# Altium footprint library MODULE_RF_WIRELESS.PcbLib: 20 footprints (part 1 of 2)
Each footprint in its own frame and in the unit in brackets; x right, y up, seen from the top. Pads: shape width x height; smd on the part's side, far side on the other; paste and mask are expansions set on the pad; w line width, h text height; cw(c..) or ccw(c..) is an arc to the next point about the centre after c.
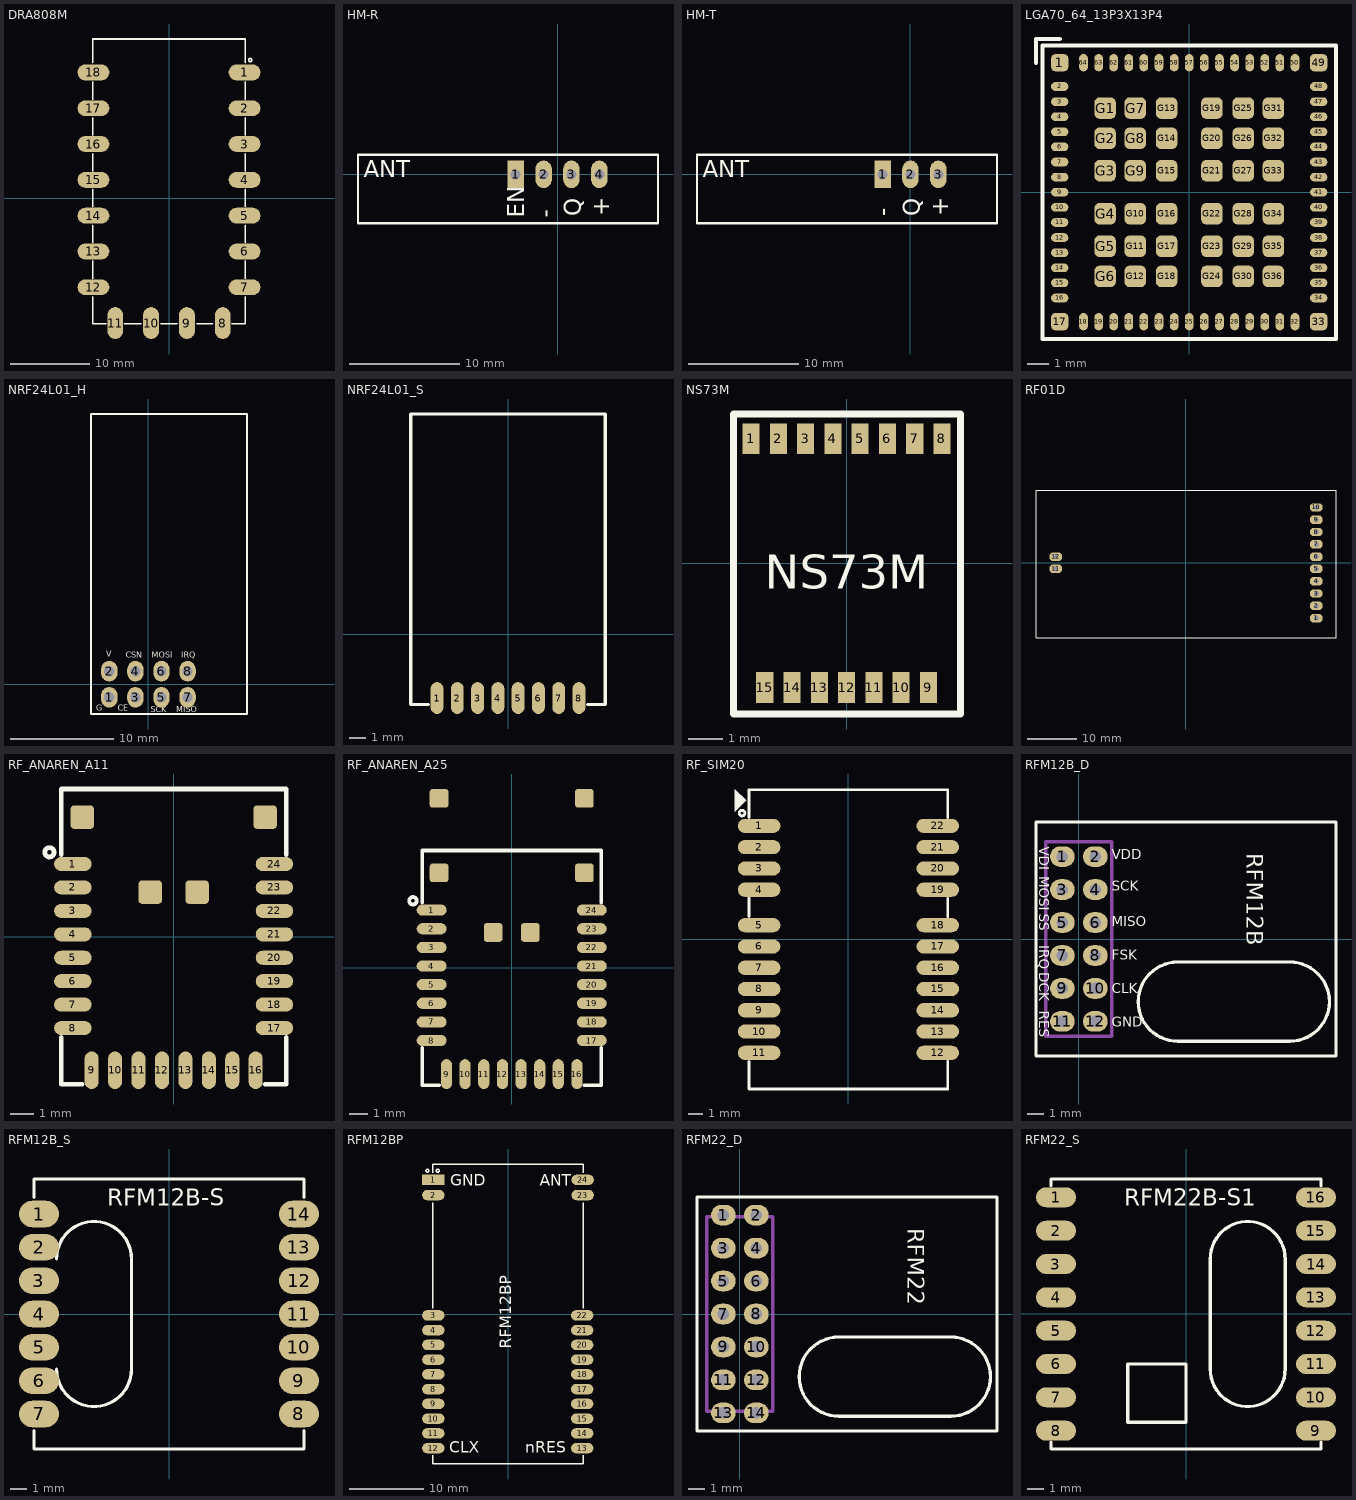
[diagram p0: the footprints below, top view; thin cyan lines are the x and y axes]

## DRA808M [mm] "DRA808M wireless module"
pads (18):
  oval 4x2 smd: 1(9.5,15.8) 2(9.5,11.3) 3(9.5,6.8) 4(9.5,2.3) 5(9.5,-2.2) 6(9.5,-6.7) 7(9.5,-11.2) 12(-9.5,-11.2) 13(-9.5,-6.7) 14(-9.5,-2.2) 15(-9.5,2.3) 16(-9.5,6.8) 17(-9.5,11.3) 18(-9.5,15.8)
  oval 2x4 smd: 8(6.75,-15.7) 9(2.25,-15.7) 10(-2.25,-15.7) 11(-6.75,-15.7)
Top Overlay:
  circle w0.2: c10.2,17.35 r0.2
  lines w0.2: -9.6,-12.4 -9.6,-15.8 -7.9,-15.8 ; -9.6,-10.1 -9.6,-7.9 ; -9.6,-5.6 -9.6,-3.4 ; -9.6,-1.1 -9.6,1.1 ; -9.6,3.4 -9.6,5.6 ; -9.6,7.9 -9.6,10.1 ; -9.6,12.4 -9.6,14.6 ; -9.6,17 -9.6,20 9.6,20 9.6,17 ; -5.6,-15.8 -3.5,-15.8 ; -1,-15.8 1,-15.8 ; 3.5,-15.8 5.5,-15.8 ; 7.9,-15.8 9.6,-15.8 9.6,-12.4 ; 9.6,-10.1 9.6,-7.9 ; 9.6,-5.6 9.6,-3.4 ; 9.6,-1.1 9.6,1.1 ; 9.6,3.4 9.6,5.6 ; 9.6,7.9 9.6,10.1 ; 9.6,12.4 9.6,14.6
3D body: height 3.2, standoff 0, extent -9.5,-15.7 9.5,19.9

## HM-R [mm] "Connector; Header; 4 Position"
pads (4):
  rect 1.5x2.5 hole 0.9: 1(-3.81,0)
  oval 1.5x2.5 hole 0.9: 2(-1.27,0) 3(1.27,0) 4(3.81,0)
Top Overlay:
  lines w0.2: 9.109,-4.445 -18.161,-4.445 -18.161,1.778 9.144,1.778 9.144,-4.445
  text "ANT" at -17.653,-0.254 h1.52
  text "+" at 4.699,-3.81 h1.52
  text "Q" at 2.159,-3.81 h1.52
  text "-" at -0.381,-3.937 h1.52
  text "EN" at -3.048,-3.937 h1.52

## HM-T [mm] "Connector; Header; 3 Position"
pads (3):
  rect 1.5x2.5 hole 0.9: 1(-2.54,0)
  oval 1.5x2.5 hole 0.9: 2(0,0) 3(2.54,0)
Top Overlay:
  lines w0.2: 7.839,-4.445 -19.431,-4.445 -19.431,1.778 7.874,1.778 7.874,-4.445
  text "ANT" at -18.923,-0.254 h1.52
  text "+" at 3.429,-3.81 h1.52
  text "Q" at 0.889,-3.81 h1.52
  text "-" at -1.778,-3.81 h1.52

## LGA70_64_13P3X13P4 [mm] "LGA64_13.3X13.4_0.7mm"
height 7.62
pads (100):
  rrect50% 0.8x0.8 smd mask+0.075: 1(-6,6) 17(-6,-6) 33(6,-6) 49(6,6)
  oval 0.8x0.4 smd mask+0.075: 2(-6,4.9) 3(-6,4.2) 4(-6,3.5) 5(-6,2.8) 6(-6,2.1) 7(-6,1.4) 8(-6,0.7) 9(-6,0) 10(-6,-0.7) 11(-6,-1.4) 12(-6,-2.1) 13(-6,-2.8) 14(-6,-3.5) 15(-6,-4.2) 16(-6,-4.9) 34(6,-4.9) 35(6,-4.2) 36(6,-3.5) 37(6,-2.8) 38(6,-2.1) 39(6,-1.4) 40(6,-0.7) 41(6,0) 42(6,0.7) 43(6,1.4) 44(6,2.1) 45(6,2.8) 46(6,3.5) 47(6,4.2) 48(6,4.9)
  oval 0.4x0.8 smd mask+0.075: 18(-4.9,-6) 19(-4.2,-6) 20(-3.5,-6) 21(-2.8,-6) 22(-2.1,-6) 23(-1.4,-6) 24(-0.7,-6) 25(0,-6) 26(0.7,-6) 27(1.4,-6) 28(2.1,-6) 29(2.8,-6) 30(3.5,-6) 31(4.2,-6) 32(4.9,-6) 50(4.9,6) 51(4.2,6) 52(3.5,6) 53(2.8,6) 54(2.1,6) 55(1.4,6) 56(0.7,6) 57(0,6) 58(-0.7,6) 59(-1.4,6) 60(-2.1,6) 61(-2.8,6) 62(-3.5,6) 63(-4.2,6) 64(-4.9,6)
  rrect50% 1x1 smd mask+0.075: G1(-3.9,3.9) G2(-3.9,2.5) G3(-3.9,1) G4(-3.9,-1) G5(-3.9,-2.5) G6(-3.9,-3.9) G7(-2.5,3.9) G8(-2.5,2.5) G9(-2.5,1) G10(-2.5,-1) G11(-2.5,-2.5) G12(-2.5,-3.9) G13(-1.05,3.9) G14(-1.05,2.5) G15(-1.05,1) G16(-1.05,-1) G17(-1.05,-2.5) G18(-1.05,-3.9) G19(1.05,3.9) G20(1.05,2.5) G21(1.05,1) G22(1.05,-1) G23(1.05,-2.5) G24(1.05,-3.9) G25(2.5,3.9) G26(2.5,2.5) G27(2.5,1) G28(2.5,-1) G29(2.5,-2.5) G30(2.5,-3.9) G31(3.9,3.9) G32(3.9,2.5) G33(3.9,1) G34(3.9,-1) G35(3.9,-2.5) G36(3.9,-3.9)
Top Overlay:
  lines w0.2: -7.1,6 -7.1,7.1 -6,7.1 ; -6.8,-6.8 -6.8,6.8 6.8,6.8 6.8,-6.8 -6.8,-6.8
3D body: height 2, standoff 0, extent -6.7,-6.7 6.7,6.7

## NRF24L01_H [mm] "MODULE, WIRELESS, NRF24L01 HEADER 2X8"
pads (8):
  oval 1.6x2 hole 1: 1(-3.81,-1.27) 2(-3.81,1.27) 3(-1.27,-1.27) 4(-1.27,1.27) 5(1.27,-1.27) 6(1.27,1.27) 7(3.81,-1.27) 8(3.81,1.27)
Top Overlay:
  lines w0.2: -5.6,-2.9 9.6,-2.9 9.6,26.3 -5.6,26.3 -5.6,-2.9
  text "V" at -4.1,2.5 h1
  text "G" at -5.1,-2.8 h1
  text "CSN" at -2.2,2.4 h1
  text "CE" at -3,-2.8 h1
  text "SCK" at 0.2,-2.9 h1
  text "MISO" at 2.7,-2.9 h1
  text "MOSI" at 0.3,2.4 h1
  text "IRQ" at 3.2,2.4 h1
3D body "NRF24L01P.STEP": height 3.5, standoff -11.41, extent -5.468,-2.794 9.532,26.206

## NRF24L01_S [mm] "MODULE, WIRELESS, NRF24L01+ smd Module"
pads (8):
  oval 0.8x2 smd: 1(-4.445,-4) 2(-3.175,-4) 3(-1.905,-4) 4(-0.635,-4) 5(0.635,-4) 6(1.905,-4) 7(3.175,-4) 8(4.445,-4)
Top Overlay:
  lines w0.2: -5,-4.4 -6.1,-4.4 -6.1,13.8 6.1,13.8 6.1,-4.4 5,-4.4
3D body "NRF24L01+ smd Module.step": height 0.8, standoff 0, extent -6,-4.3 6,13.7

## NS73M [mm]
pads (15):
  rect 0.5x0.9 smd: 1(-2.8,3.65) 2(-2,3.65) 3(-1.2,3.65) 4(-0.4,3.65) 5(0.4,3.65) 6(1.2,3.65) 7(2,3.65) 8(2.8,3.65) 9(2.4,-3.65) 10(1.6,-3.65) 11(0.8,-3.65) 12(0,-3.65) 13(-0.8,-3.65) 14(-1.6,-3.65) 15(-2.4,-3.65)
Top Overlay:
  lines w0.2: -3.321,-4.427 3.347,-4.427 3.347,4.374 -3.321,4.374 -3.321,-4.427
  text "NS73M" at -2.394,-0.757 h1

## RF01D [mm]
pads (12):
  oct 2.5x1.7 hole 1: 1(26.5,-11.25) 2(26.5,-8.75) 3(26.5,-6.25) 4(26.5,-3.75) 5(26.5,-1.25) 6(26.5,1.25) 7(26.5,3.75) 8(26.5,6.25) 9(26.5,8.75) 10(26.5,11.25) 11(-26.5,-1.25) 12(-26.5,1.25)
Top Overlay:
  lines w0.25: -30.5,-15.25 30.5,-15.25 30.5,14.75 -30.5,14.75 -30.5,-15.25

## RF_ANAREN_A11 [mm] "RF MODULE, ANAREN, 2.4GHz,"
pads (28):
  oval 1.6x0.6 smd mask+0.1: 1(-4.3,3.1) 2(-4.3,2.1) 3(-4.3,1.1) 4(-4.3,0.1) 5(-4.3,-0.9) 6(-4.3,-1.9) 7(-4.3,-2.9) 8(-4.3,-3.9) 17(4.3,-3.9) 18(4.3,-2.9) 19(4.3,-1.9) 20(4.3,-0.9) 21(4.3,0.1) 22(4.3,1.1) 23(4.3,2.1) 24(4.3,3.1)
  oval 0.6x1.6 smd mask+0.1: 9(-3.5,-5.7) 10(-2.5,-5.7) 11(-1.5,-5.7) 12(-0.5,-5.7) 13(0.5,-5.7) 14(1.5,-5.7) 15(2.5,-5.7) 16(3.5,-5.7)
  rrect30% 1x1 smd mask+0.1: ""(-3.9,5.1) ""(-1,1.9) ""(1,1.9) ""(3.9,5.1)
Top Overlay:
  circle w0.2: c-5.3,3.6 r0.2
  lines w0.2: -4.8,-4.3 -4.8,-6.3 -3.9,-6.3 ; -4.8,3.5 -4.8,6.3 4.8,6.3 4.8,3.5 ; 3.9,-6.3 4.8,-6.3 4.8,-4.3
3D body: height 1, standoff 0, extent -4.7,-6.2 4.7,6.2
3D body: height 2.5, standoff 1, extent -4,-5.5 4,2.5

## RF_ANAREN_A25 [mm] "RF MODULE, ANAREN, 2.4GHz,"
pads (30):
  oval 1.6x0.6 smd mask+0.1: 1(-4.3,3.1) 2(-4.3,2.1) 3(-4.3,1.1) 4(-4.3,0.1) 5(-4.3,-0.9) 6(-4.3,-1.9) 7(-4.3,-2.9) 8(-4.3,-3.9) 17(4.3,-3.9) 18(4.3,-2.9) 19(4.3,-1.9) 20(4.3,-0.9) 21(4.3,0.1) 22(4.3,1.1) 23(4.3,2.1) 24(4.3,3.1)
  oval 0.6x1.6 smd mask+0.1: 9(-3.5,-5.7) 10(-2.5,-5.7) 11(-1.5,-5.7) 12(-0.5,-5.7) 13(0.5,-5.7) 14(1.5,-5.7) 15(2.5,-5.7) 16(3.5,-5.7)
  rrect30% 1x1 smd mask+0.1: ""(-3.9,5.1) ""(-1,1.9) ""(1,1.9) ""(3.9,5.1)
  rrect30% 1x1 smd: ""(-3.9,9.1) ""(3.9,9.1)
Top Overlay:
  circle w0.2: c-5.3,3.6 r0.2
  lines w0.2: -4.8,-4.3 -4.8,-6.3 -3.9,-6.3 ; -4.8,3.5 -4.8,6.3 4.8,6.3 4.8,3.5 ; 3.9,-6.3 4.8,-6.3 4.8,-4.3
3D body: height 1, standoff 0, extent -4.7,-6.2 4.7,6.2
3D body: height 2.5, standoff 1, extent -4,-5.5 4,2.5

## RF_SIM20 [mm] "RF MODULE, SIMCOM SIM20"
pads (22):
  oval 3x1 smd: 1(-6.3,8) 2(-6.3,6.5) 3(-6.3,5) 4(-6.3,3.5) 5(-6.3,1) 6(-6.3,-0.5) 7(-6.3,-2) 8(-6.3,-3.5) 9(-6.3,-5) 10(-6.3,-6.5) 11(-6.3,-8) 12(6.3,-8) 13(6.3,-6.5) 14(6.3,-5) 15(6.3,-3.5) 16(6.3,-2) 17(6.3,-0.5) 18(6.3,1) 19(6.3,3.5) 20(6.3,5) 21(6.3,6.5) 22(6.3,8)
Top Overlay:
  circle w0.2: c-7.5,8.9 r0.2
  region: -7.2,9.8 -8,10.6 -8,9
  lines w0.2: -7,-8.6 -7,-10.55 7,-10.55 7,-8.6 ; -7,1.6 -7,2.9 ; -7,8.6 -7,10.55 7,10.55 7,8.6 ; 7,1.6 7,2.9
3D body "SIM20.step": height 2.75, standoff 0, extent -6.9,-10.5 6.9,10.5

## RFM12B_D [mm] "MODULE, WIRELESS, RFM12B-D"
pads (12):
  oval 1.5x1.25 hole 0.7: 1(-1,5) 2(1,5) 3(-1,3) 4(1,3) 5(-1,1) 6(1,1) 7(-1,-1) 8(1,-1) 9(-1,-3) 10(1,-3) 11(-1,-5) 12(1,-5)
Top Overlay:
  lines w0.2: -2.6,-7.1 -2.6,7.1 15.6,7.1 15.6,-7.1 -2.6,-7.1 ; 6,-6.2 cw(c6,-3.8) 6,-1.4 12.8,-1.4 cw(c12.8,-3.8) 12.8,-6.2 6,-6.2
  text "VDD" at 2,4.826 h0.6
  text "SCK" at 2,2.921 h0.6
  text "MISO" at 2,0.762 h0.6
  text "FSK" at 2,-1.27 h0.6
  text "CLK" at 2,-3.302 h0.6
  text "GND" at 2,-5.334 h0.6
  text "RES" at -2.4,-4.351 h0.6
  text "DCK" at -2.4,-2.032 h0.6
  text "IRQ" at -2.4,-0.381 h0.6
  text "SS" at -2.4,1.524 h0.6
  text "MOSI" at -2.4,3.81 h0.6
  text "VDI" at -2.4,5.588 h0.6
  text "RFM12B" at 10.2,5.2 h1
Mechanical 1:
  lines w0.2: -2,-5.9 2,-5.9 2,5.9 -2,5.9 -2,-5.9
3D body: height 8.2, standoff 7, extent -2.5,-7 15.5,7
3D body "pin_header_a-sl200-dg-g06d.stp": height 9.8, standoff 1, extent -2,-5.95 2,-0.05
3D body "pin_header_a-sl200-dg-g06d.stp": height 9.8, standoff 1, extent -2,0.05 2,5.95
3D body "female_header_a-bl200-dg-g06d.stp": height 4, standoff -2.8, extent -2.25,-6.25 2.25,0.25
3D body "female_header_a-bl200-dg-g06d.stp": height 4, standoff -2.8, extent -2.25,-0.25 2.25,6.25
3D body "HC-49_LT_THT_16MHz.step": height 8.99, standoff 3.4, extent 3.725,-6.125 15.075,-1.475

## RFM12B_S [mm] "MODULE, WIRELESS, RFM12B-S"
pads (14):
  oval 2.4x1.6 smd: 1(-7.8,6) 2(-7.8,4) 3(-7.8,2) 4(-7.8,0) 5(-7.8,-2) 6(-7.8,-4) 7(-7.8,-6) 8(7.8,-6) 9(7.8,-4) 10(7.8,-2) 11(7.8,0) 12(7.8,2) 13(7.8,4) 14(7.8,6)
Top Overlay:
  lines w0.2: -8.1,-7 -8.1,-8.1 8.1,-8.1 8.1,-7 ; -8.1,7 -8.1,8.1 8.1,8.1 8.1,7 ; -6.75,-3.302 ccw(c-4.5,-3.302) -2.25,-3.302 -2.25,3.302 ccw(c-4.5,3.302) -6.75,3.302
  text "RFM12B-S" at -3.7,6.5 h1
3D body "RFM12BS.STEP": height 4.2, standoff 0.05, extent -7.96,-8.05 7.96,8.05

## RFM12BP [mm]
pads (24):
  rect 3x1.4 smd: 1(-10,17.97)
  oval 3x1.4 smd: 2(-10,15.938) 3(-10,-0.191) 4(-10,-2.166) 5(-10,-4.142) 6(-10,-6.117) 7(-10,-8.093) 8(-10,-10.068) 9(-10,-12.044) 10(-10,-14.019) 11(-10,-15.995) 12(-10,-17.97) 13(9.939,-17.97) 14(9.939,-15.995) 15(9.939,-14.019) 16(9.939,-12.044) 17(9.939,-10.068) 18(9.939,-8.093) 19(9.939,-6.117) 20(9.939,-4.142) 21(9.939,-2.166) 22(9.939,-0.191) 23(10,15.938) 24(10,17.97)
Top Overlay:
  circle w0.2: c-10.8,19.2 r0.2
  circle w0.2: c-9.4,19.2 r0.2
  lines w0.2: -10.1,-18.9 -10.1,-20.1 10.1,-20.1 10.1,-18.9 ; -10.1,0.8 -10.1,14.9 ; -10.1,18.9 -10.1,20.1 10.1,20.1 10.1,18.9 ; 10.1,0.8 10.1,14.9
  text "CLX" at -7.841,-18.605 h1.52
  text "nRES" at 2.319,-18.605 h1.52
  text "ANT" at 4.224,17.209 h1.52
  text "GND" at -7.714,17.209 h1.52
  text "RFM12BP" at 0.414,-4.635 h1.52
3D body: height 3, standoff -0.6, extent -10,-20 10,20

## RFM22_D [mm] "MODULE, WIRELESS, RFM22-D"
pads (14):
  oval 1.5x1.25 hole 0.7: 1(-1,6) 2(1,6) 3(-1,4) 4(1,4) 5(-1,2) 6(1,2) 7(-1,0) 8(1,0) 9(-1,-2) 10(1,-2) 11(-1,-4) 12(1,-4) 13(-1,-6) 14(1,-6)
Top Overlay:
  lines w0.2: -2.6,-7.1 -2.6,7.1 15.6,7.1 15.6,-7.1 -2.6,-7.1 ; 6,-6.2 cw(c6,-3.8) 6,-1.4 12.8,-1.4 cw(c12.8,-3.8) 12.8,-6.2 6,-6.2
  text "RFM22" at 10.2,5.2 h1
Mechanical 1:
  lines w0.2: -2,-5.9 2,-5.9 2,5.9 -2,5.9 -2,-5.9
3D body: height 8.2, standoff 7, extent -2.5,-7 15.5,7
3D body "pin_header_a-sl200-dg-g06d.stp": height 9.8, standoff 1, extent -2,-5.95 2,-0.05
3D body "pin_header_a-sl200-dg-g06d.stp": height 9.8, standoff 1, extent -2,0.05 2,5.95
3D body "female_header_a-bl200-dg-g06d.stp": height 4, standoff -2.8, extent -2.25,-6.25 2.25,0.25
3D body "female_header_a-bl200-dg-g06d.stp": height 4, standoff -2.8, extent -2.25,-0.25 2.25,6.25
3D body "HC-49_LT_THT_16MHz.step": height 8.99, standoff 3.4, extent 3.725,-6.125 15.075,-1.475

## RFM22_S [mm] "MODULE, WIRELESS, RFM22-S1"
pads (16):
  oval 2.4x1.2 smd: 1(-7.8,7) 2(-7.8,5) 3(-7.8,3) 4(-7.8,1) 5(-7.8,-1) 6(-7.8,-3) 7(-7.8,-5) 8(-7.8,-7) 9(7.8,-7) 10(7.8,-5) 11(7.8,-3) 12(7.8,-1) 13(7.8,1) 14(7.8,3) 15(7.8,5) 16(7.8,7)
Top Overlay:
  lines w0.2: -8.1,-7.7 -8.1,-8.1 8.1,-8.1 8.1,-7.7 ; -8.1,7.7 -8.1,8.1 8.1,8.1 8.1,7.7 ; -3.5,-6.5 -3.5,-3 0,-3 0,-6.5 -3.5,-6.5 ; 1.45,-3.302 ccw(c3.7,-3.302) 5.95,-3.302 5.95,3.302 ccw(c3.7,3.302) 1.45,3.302 1.45,-3.302
  text "RFM22B-S1" at -3.7,6.5 h1
3D body "User Library-RFM22B.STEP": height 6.18, standoff -0.02, extent -8.001,-8 8.001,7.9